# EAGLE library part ST32F769 (library ST32F769)
32F769IDISCOVERY board
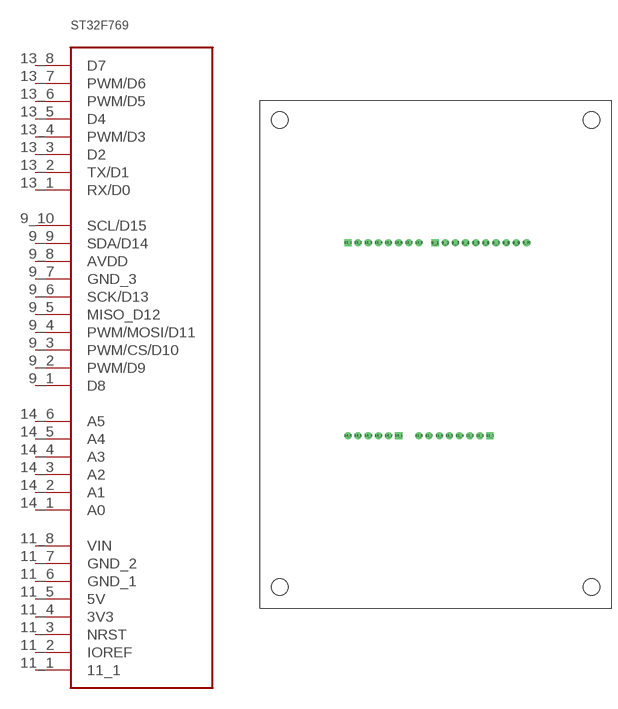
[diagram p0: symbol with the pads of ST32F769; footprint ST32F769]

Designator prefix -

## ST32F769  [ST32F769]
9_1  D8
9_2  PWM/D9
9_3  PWM/CS/D10
9_4  PWM/MOSI/D11
9_5  MISO_D12
9_6  SCK/D13
9_7  GND_3
9_8  AVDD
9_9  SDA/D14
9_10  SCL/D15
11_1  11_1
11_2  IOREF
11_3  NRST
11_4  3V3
11_5  5V
11_6  GND_1
11_7  GND_2
11_8  VIN
13_1  RX/D0
13_2  TX/D1
13_3  D2
13_4  PWM/D3
13_5  D4
13_6  PWM/D5
13_7  PWM/D6
13_8  D7
14_1  A0
14_2  A1
14_3  A2
14_4  A3
14_5  A4
14_6  A5

## Footprint ST32F769 (pad centres in mm)
drill 1.016 pad 1.778 square: 9_1 43.884,91.29; 11_1 57.6,43.03; 13_1 22.04,91.29; 14_1 34.74,43.03
drill 1.016 pad 1.778: 9_2 46.424,91.29; 9_3 48.964,91.29; 9_4 51.504,91.29; 9_5 54.044,91.29; 9_6 56.584,91.29; 9_7 59.124,91.29; 9_8 61.664,91.29; 9_9 64.204,91.29; 9_10 66.744,91.29; 11_2 55.06,43.03; 11_3 52.52,43.03; 11_4 49.98,43.03; 11_5 47.44,43.03; 11_6 44.9,43.03; 11_7 42.36,43.03; 11_8 39.82,43.03; 13_2 24.58,91.29; 13_3 27.12,91.29; 13_4 29.66,91.29; 13_5 32.2,91.29; 13_6 34.74,91.29; 13_7 37.28,91.29; 13_8 39.82,91.29; 14_2 32.2,43.03; 14_3 29.66,43.03; 14_4 27.12,43.03; 14_5 24.58,43.03; 14_6 22.04,43.03
hole 4.064 at 5,5.26
hole 4.064 at 83,5.26
hole 4.064 at 83,122
hole 4.064 at 5,122